# EAGLE library part HIP2101IBZ (library Intersil_By_element14_Batch_1)
Low Cost, High Frequency Half Bridge Driver
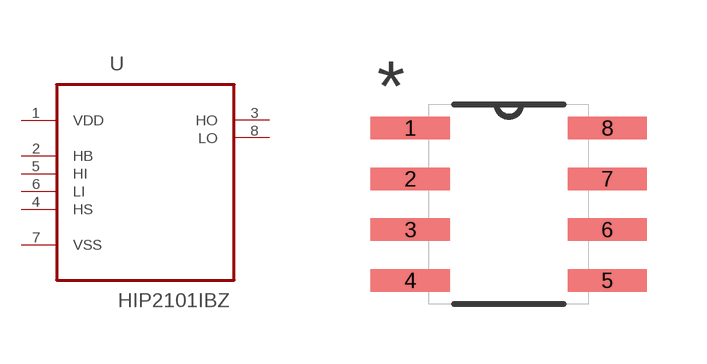
[diagram p149: symbol with the pads of SOIC127P600X175-8N; footprint SOIC127P600X175-8N]

Designator prefix U

## HIP2101IBZ (MPN: HIP2101IBZ; OC_FARNELL: 1561951; OC_NEWARK: 97H9762; PACKAGE: SOIC-8; SUPPLIER: INTERSIL)  [SOIC127P600X175-8N]
1  VDD  pwr
2  HB  in
3  HO  out
4  HS  in
5  HI  in
6  LI  in
7  VSS  pwr
8  LO  out

## Footprint SOIC127P600X175-8N (pad centres in mm)
smd 1.981 x 0.559: 1 -2.464,1.905; 2 -2.464,0.635; 3 -2.464,-0.635; 4 -2.464,-1.905; 5 2.464,-1.905; 6 2.464,-0.635; 7 2.464,0.635; 8 2.464,1.905